# Altium schematic symbol library Schlib_autocar.SchLib: 21 symbols
Pins are listed as number, name and electrical type; pins without a type are passive.

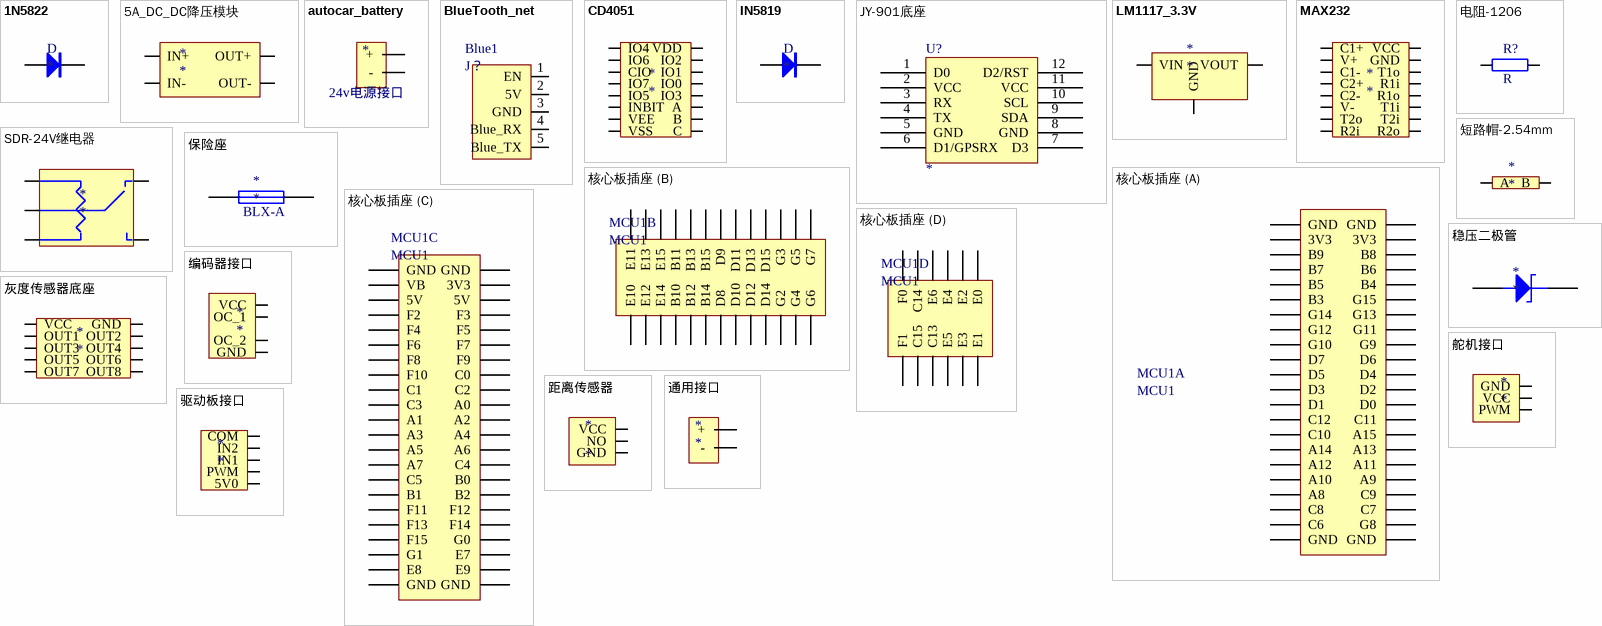
[diagram p0: symbols 1N5822 to 驱动板接口]

## 1N5822
designator D
3A 40V肖特基二极管
footprint DO-201AD (5.2*15.2mm(直径，脚距）)
pins: 1, 2

## 5A_DC_DC降压模块
designator *
footprint DC_DC降压模块 (5A最高)
pins: 0 IN+ (power), 1 IN- (power), 2 OUT+ (power), 3 OUT- (power)

## autocar_battery
designator *
智能车24v电池连接端口
footprint autocar_battery (24v电池接口)
pins: 0 + (power), 1 - (power)
text: 24v电源接口

## BlueTooth_net
designator Blue1, comment J？
footprint HDR2.54-M-LI-5P (排母，5脚)
pins: 1 EN, 2 5V (power), 3 GND (power), 4 Blue_RX, 5 Blue_TX

## CD4051
designator *
footprint CD4051 (10.3*6.2*1.8mm（长宽高）)
pins: 1 IO4, 2 IO6, 3 CIO, 4 IO7, 5 IO5, 6 INBIT, 7 VEE, 8 VSS, 9 C, 10 B, 11 A, 12 IO3, 13 IO0, 14 IO1, 15 IO2, 16 VDD

## IN5819
designator D
1A-40V肖特基
footprint DO-41 (2.6*9.1mm(直径，脚距）)
pins: 1, 2

## JY-901底座
designator U?
高精度9轴传感器
footprint JY901_过孔
pins: 1 D0, 2 VCC, 3 RX, 4 TX, 5 GND, 6 D1/GPSRX, 7 D3, 8 GND, 9 SDA, 10 SCL, 11 VCC, 12 D2/RST
2 alternate drawings of the same symbol

## LM1117_3.3V
designator *
footprint ASM1117_3.3V (6.4x7x1.6mm(长宽高))
pins: 1 GND, 2 VOUT, 3 VIN

## MAX232
designator *
footprint MAX232
pins: 1 C1+, 2 V+, 3 C1-, 4 C2+, 5 C2-, 6 V-, 7 T2o, 8 R2i, 9 R2o, 10 T2i, 11 T1i, 12 R1o, 13 R1i, 14 T1o, 15 GND, 16 VCC

## SDR-24V继电器
designator *
footprint SRD-C_B (单刀双投)
pins: 1 coil, 2 coil, 3 power, 4 open, 5 close

## 保险座
designator *
BLX-A
footprint FU BLX-A (BLX-A型保险丝座)
pins: 1, 2

## 核心板插座
designator MCU1, comment MCU1
footprint 核心板底座
part A pins: 1 GND (power), 2 GND (power), 3 3V3, 4 3V3, 5 B9, 6 B8, 7 B7, 8 B6, 9 B5, 10 B4, 11 B3, 12 G15, 13 G14, 14 G13, 15 G12, 16 G11, 17 G10, 18 G9, 19 D7, 20 D6, 21 D5, 22 D4, 23 D3, 24 D2, 25 D1, 26 D0, 27 C12, 28 C11, 29 C10, 30 A15, 31 A14, 32 A13, 33 A12, 34 A11, 35 A10, 36 A9, 37 A8, 38 C9, 39 C8, 40 C7, 41 C6, 42 G8, 43 GND, 44 GND
part B pins: 45 G7, 46 G6, 47 G5, 48 G4, 49 G3, 50 G2, 51 D15, 52 D14, 53 D13, 54 D12, 55 D11, 56 D10, 57 D9, 58 D8, 59 B15, 60 B14, 61 B13, 62 B12, 63 B11, 64 B10, 65 E15, 66 E14, 67 E13, 68 E12, 69 E11, 70 E10
part C pins: 71 GND, 72 GND, 73 E9, 74 E8, 75 E7, 76 G1, 77 G0, 78 F15, 79 F14, 80 F13, 81 F12, 82 F11, 83 B2, 84 B1, 85 B0, 86 C5, 87 C4, 88 A7, 89 A6, 90 A5, 91 A4, 92 A3, 93 A2, 94 A1, 95 A0, 96 C3, 97 C2, 98 C1, 99 C0, 100 F10, 101 F9, 102 F8, 103 F7, 104 F6, 105 F5, 106 F4, 107 F3, 108 F2, 109 5V, 110 5V, 111 3V3, 112 VB, 113 GND, 114 GND
part D pins: 115 F1, 116 F0, 117 C15, 118 C14, 119 C13, 120 E6, 121 E5, 122 E4, 123 E3, 124 E2, 125 E1, 126 E0

## 灰度传感器底座
designator *
footprint DC-2.54-L-Z-10P (立式直插简牛插座，间距2.54（蒜米工坊）)
pins: 1 OUT8, 2 OUT7, 3 OUT6, 4 OUT5, 5 OUT4, 6 OUT3, 7 OUT2, 8 OUT1, 9 GND, 10 VCC

## 电阻-1206
designator R?, comment R
1206
footprint 1206R
pins: 1, 2

## 短路帽-2.54mm
designator *
footprint HDR2.54-LI-2P (排针，2脚)
pins: 1 A, 2 B

## 稳压二极管
designator *
1N4750-27v
footprint DO-41 (2.6*9.1mm(直径，脚距）)
pins: 1 A, 2 K

## 编码器接口
designator *
footprint XH2.54-LI-4P (接插件，4P)
pins: 1 VCC, 2 OC_1, 3 OC_2, 4 GND

## 舵机接口
designator *
footprint XH2.54-LI-3P (接插件，3P)
pins: 1 GND, 2 VCC, 3 PWM

## 距离传感器
designator *
footprint XH2.54-LI-3P (接插件，3P)
pins: 1 VCC, 2 NO, 3 GND

## 通用接口
designator *
footprint 通用接口
pins: 1 + (power), 2 - (power)

## 驱动板接口
designator *
footprint XH2.54-LI-5P (接插件，5P)
pins: 1 COM, 2 IN2, 3 IN1, 4 PWM, 5 5V0